# EAGLE library part LUCAS-LIBRARY_.2RS24_TRANSFORMER (library bat-board rev 2.0)
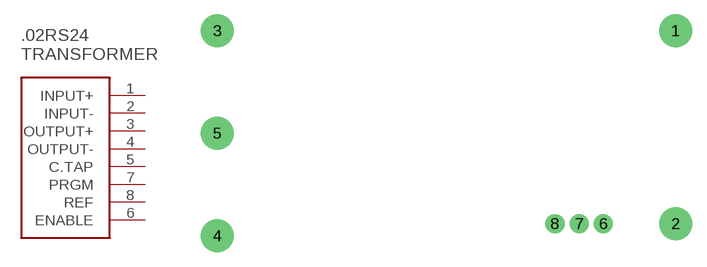
[diagram p0: symbol with the pads of LUCAS-LIBRARY_0.2RS24_TRANSFORMER; footprint LUCAS-LIBRARY_0.2RS24_TRANSFORMER]

Designator prefix U$

## LUCAS-LIBRARY_.2RS24_TRANSFORMER  [LUCAS-LIBRARY_0.2RS24_TRANSFORMER]
1  INPUT+
2  INPUT-
3  OUTPUT+
4  OUTPUT-
5  C.TAP
6  ENABLE
7  PRGM
8  REF

## Footprint LUCAS-LIBRARY_0.2RS24_TRANSFORMER (pad centres in mm)
drill 2 pad 3.5: 1 25.4,12.065; 2 25.4,-8.255; 3 -22.86,12.065; 4 -22.86,-9.525; 5 -22.86,1.27
drill 1 pad 2.032: 6 17.78,-8.255; 7 15.24,-8.255; 8 12.7,-8.255